# Altium schematic symbol library TCA9548APWR.SCHLIB: 1 symbol
Pins are listed as number, name and electrical type; pins without a type are passive.

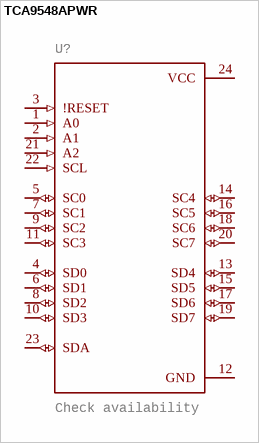
[diagram p0: symbol TCA9548APWR]

## TCA9548APWR
designator U?, comment Check availability
GateName_1: G$1; SymbolName_1: TCA9548APWR; MF: Texas Instruments; LibraryName: TCA9548APWR; DeviceSetName: TCA9548APWR; Package: SOP65P640X120-24N; Package: TSSOP-24 Texas Instruments; Price: None; Check_prices: https://www.snapeda.com/parts/TCA9548APWR/Texas+Instruments/view-part/?ref=eda; SnapEDA_Link: https://www.snapeda.com/parts/TCA9548APWR/Texas+Instruments/view-part/?ref=snap; MP: TCA9548APWR; Availability: In Stock; Purchase-URL: https://www.snapeda.com/api/url_track_click_mouser/?unipart_id=280817&manufacturer=Texas Instruments&part_name=TCA9548APWR&search_term=tca9548a
footprint SOP65P640X120-24N
pins: 1 A0 (in), 2 A1 (in), 3 !RESET (in), 4 SD0 (io), 5 SC0 (io), 6 SD1 (io), 7 SC1 (io), 8 SD2 (io), 9 SC2 (io), 10 SD3 (io), 11 SC3 (io), 12 GND (power), 13 SD4 (io), 14 SC4 (io), 15 SD5 (io), 16 SC5 (io), 17 SD6 (io), 18 SC6 (io), 19 SD7 (io), 20 SC7 (io), 21 A2 (in), 22 SCL (in), 23 SDA (io), 24 VCC (power)